# Altium schematic symbol library NIXIE_3.SCHLIB: 11 symbols
Pins are listed as number, name and electrical type; pins without a type are passive.

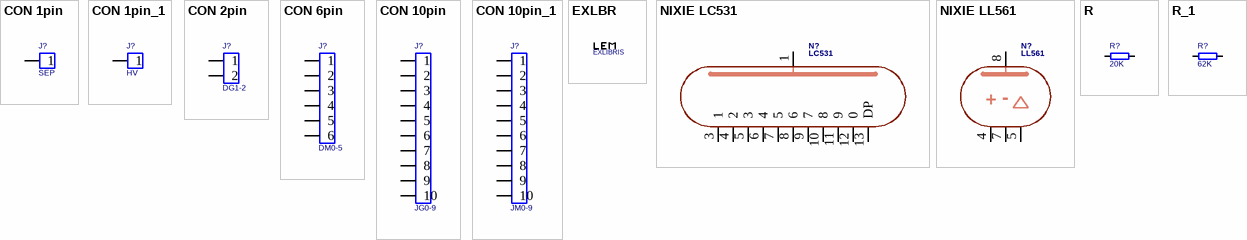
[diagram p0: symbols CON 1pin to R_1]

## CON 1pin
designator J?, comment SEP
Connector 1pin also mounting hole
footprint SIL1 (Obudowa szeregow SIP 1 pin)
footprint M_Hole_2mm (Mounting Hole Dia 2mm)
footprint M_Hole_3mm (Mounting Hole 3mm)
footprint M_HOLE_4mm (Mounting Hole 4mm w/via)
pins: 1

## CON 1pin_1
designator J?, comment HV
Connector 1pin also mounting hole
footprint SIL1 (Obudowa szeregow SIP 1 pin)
footprint M_Hole_2mm (Mounting Hole Dia 2mm)
footprint M_Hole_3mm (Mounting Hole 3mm)
footprint M_HOLE_4mm (Mounting Hole 4mm w/via)
pins: 1

## CON 2pin
designator J?, comment DG1-2
Connector 2pin
footprint ARK_3.5_2pin (Złącze ARK mini 3.5mm)
footprint ARK_5.0_2PIN (ARK Screw Connector 2PINs)
footprint SIL2_GP_V (Goldpin pion 2PIN)
pins: 1, 2

## CON 6pin
designator J?, comment DM0-5
6 Pin Connector
footprint ARK_5.0_6PIN (ARK Screw Connector 6PINs)
footprint SIL6_GP_H (Obudowa szeregowa SIP 6pin)
footprint SIL6_GP_V (Goldpin 6PIN pionowe)
pins: 1, 2, 3, 4, 5, 6

## CON 10pin
designator J?, comment JG0-9
Connector 10 pin
footprint SIL10 (Obudowa szeregowa 10p)
pins: 1, 2, 3, 4, 5, 6, 7, 8, 9, 10

## CON 10pin_1
designator J?, comment JM0-9
Connector 10 pin
footprint SIL10 (Obudowa szeregowa 10p)
pins: 1, 2, 3, 4, 5, 6, 7, 8, 9, 10

## EXLBR
designator EXLIBRIS?, comment EXLIBRIS
footprint EXLBS_1 (Exlibris - LeM - TOP Overlay Hight = 180mil)
footprint EXLBS_2 (Exlibris TOP Layer Hight = 180mil)
footprint EXLIBS_3 (Exlibris Hight = 120mil)

## NIXIE LC531
designator N?, comment LC531
Lampa Numeryczna Nixie
footprint Nixie LC531 (Lampa Nixie LC531 LL561)
pins: 1 A, 3 1, 4 2, 5 3, 6 4, 7 5, 8 6, 9 7, 10 8, 11 9, 12 0, 13 DP

## NIXIE LL561
designator N?, comment LL561
SIGN NEON LAMP
footprint NIXIE LL561 (Lampa Nixie LL561 ZNAKOWA)
pins: 4 +, 5 DELTA, 7 -, 8 A

## R
designator R?, comment 20K
Resistor
footprint SMD_R_0805 (Rozmiar 0805 -> 80x50mil)
footprint SMD_R_MMELF (Rozmiar Mini Melf)
footprint R_400 (Resistor - raster 400mils (0.125W))
footprint R_300_0.125W (Resistor raster 300mils (0.125W))
footprint R_300_0.1W (Res. raster 300mils (0.1W))
footprint SMR_3W (Rezystor SMD serii SMR - R100; 1%; 3W)
footprint Caddok_MP915 (Rezystor Caddok TO-126)
footprint R_600_1W (Rezystor mocy 1W)
pins: 1 "EL. Cap Negative pin", 2 "EL. Cap Negative pin"

## R_1
designator R?, comment 62K
Resistor
footprint SMD_R_0805 (Rozmiar 0805 -> 80x50mil)
footprint SMD_R_MMELF (Rozmiar Mini Melf)
footprint R_400 (Resistor - raster 400mils (0.125W))
footprint R_300_0.125W (Resistor raster 300mils (0.125W))
footprint R_300_0.1W (Res. raster 300mils (0.1W))
footprint SMR_3W (Rezystor SMD serii SMR - R100; 1%; 3W)
footprint Caddok_MP915 (Rezystor Caddok TO-126)
footprint R_600_1W (Rezystor mocy 1W)
pins: 1 "EL. Cap Negative pin", 2 "EL. Cap Negative pin"